# EAGLE library part STHS34PF80 (library STHS34PF80)
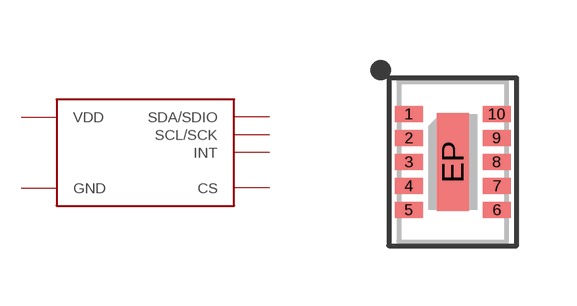
[diagram p0: symbol with the pads of LGA-10L; footprint LGA-10L]

Designator prefix -

## STHS34PF80 (PROD_ID: IC-19626)  [LGA-10L]
1  SCL/SCK
2  GND
3  CS
4  SDA/SDIO
6  VDD
7  GND
8  GND
9  VDD
10  INT

## Footprint LGA-10L (pad centres in mm)
smd 0.7 x 0.4: 1 -1.1,1.2; 2 -1.1,0.6; 3 -1.1,0; 4 -1.1,-0.6; 5 -1.1,-1.2; 6 1.1,-1.2; 7 1.1,-0.6; 8 1.1,0; 9 1.1,0.6; 10 1.1,1.2
smd 0.8 x 2.45: EP 0,0